# Altium schematic symbol library OpenRex_V1I1.SCHLIB: 164 symbols (part 3 of 5)
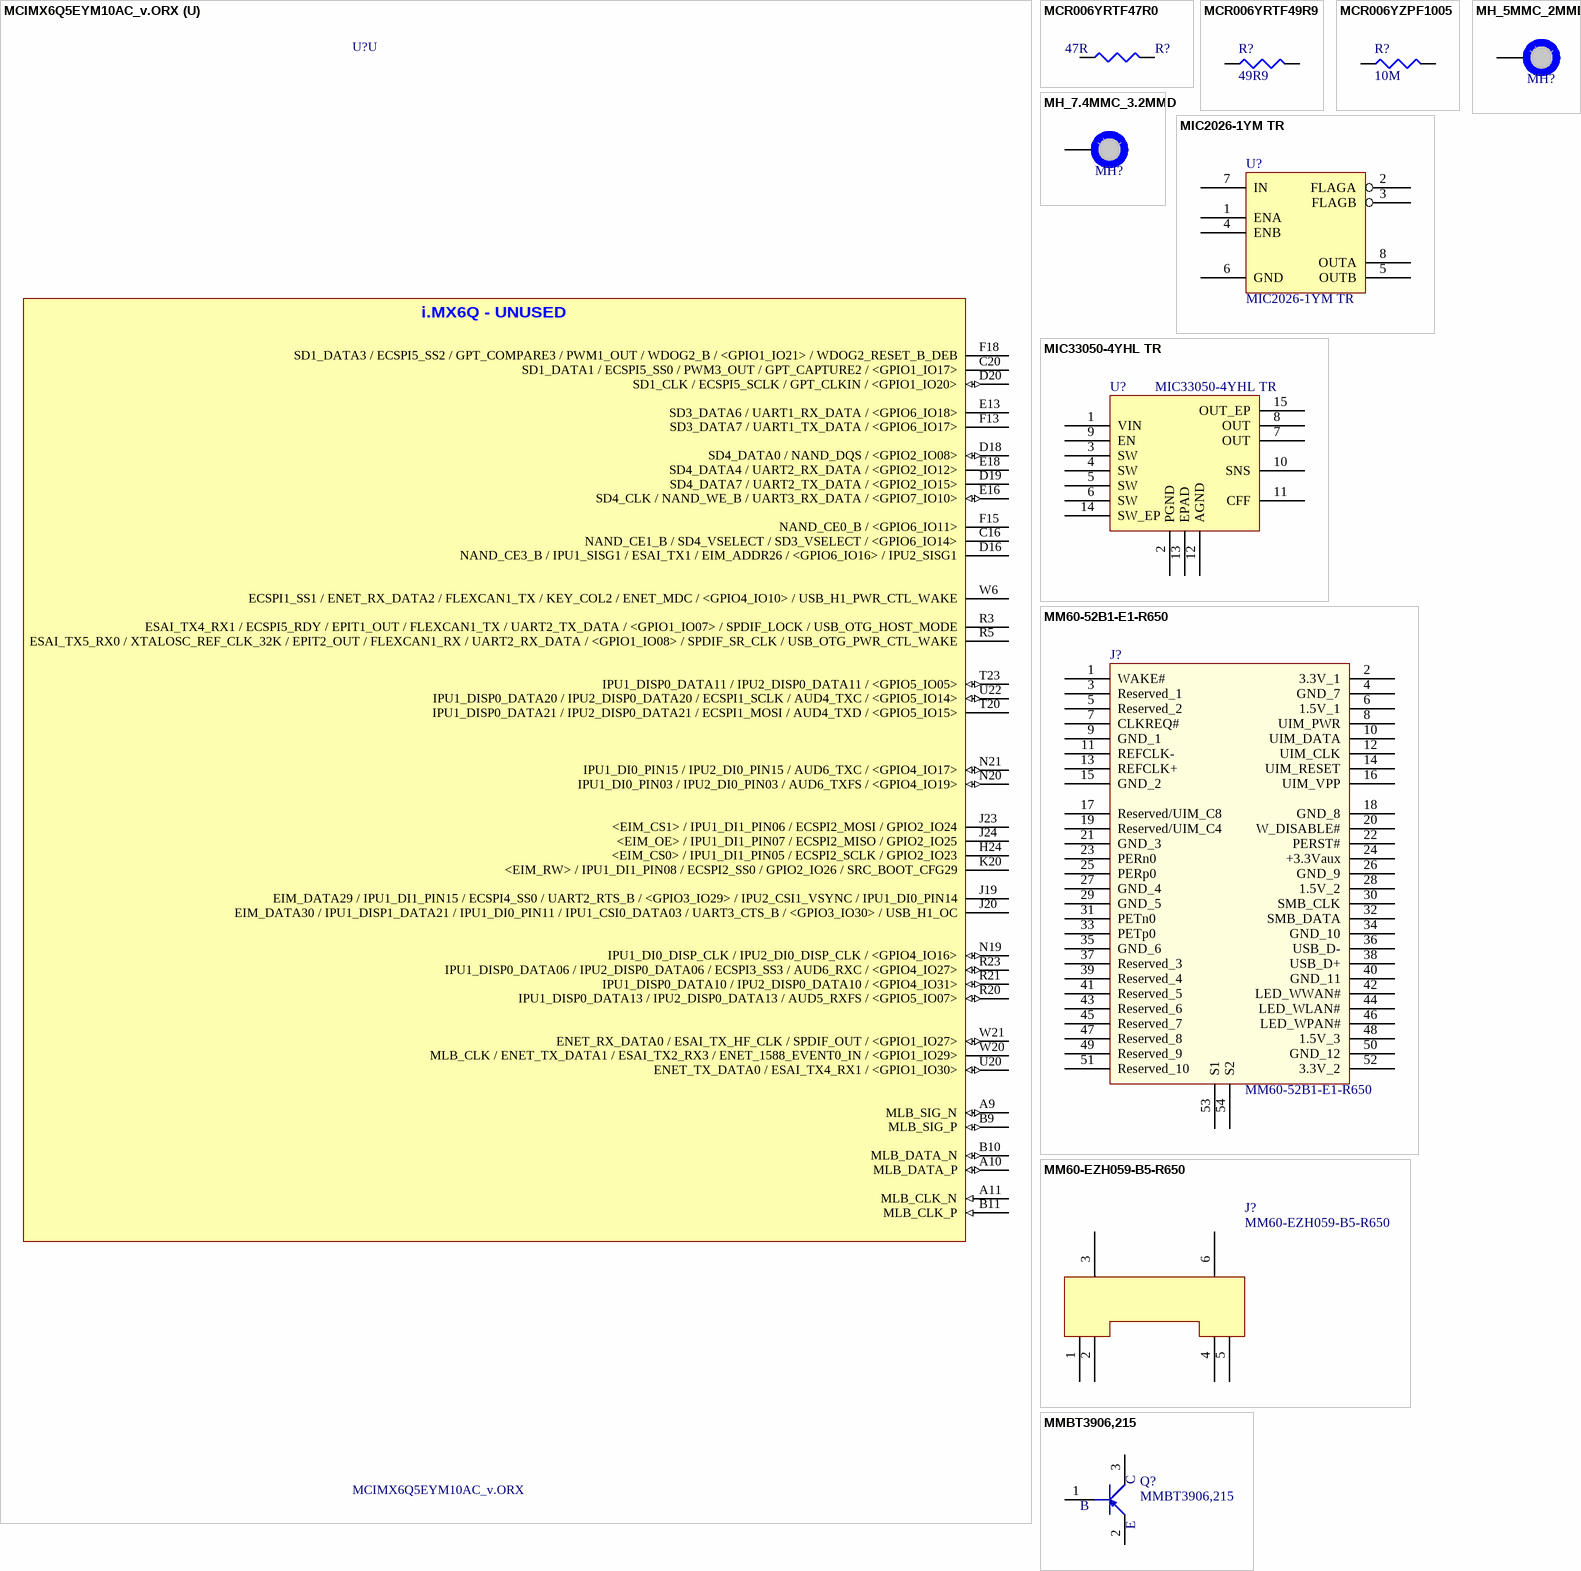
[diagram p18: symbols MCIMX6Q5EYM10AC_v.ORX to MMBT3906,215]

## MCIMX6Q5EYM10AC_v.ORX
designator U?
IC MCU 32BIT ARM QUAD 624FCBGA; Manufacturer: Freescale Semiconductor; Core Processor: ARM® Cortex™-A9; Core Size: 32-Bit Quad-Core; Speed: 1.0GHz; Connectivity: CAN, EBI/EMI, ESAI, Ethernet, GPMI, I2C, MMC/SD, PCI, SATA, SPI, UART, USB, USB OTG; Peripherals: DMA, HDMI, I2S/SSI/AC97, MIPI CSI, MIMI DSI, MIPI HIS, PWM, WDT; Number of I /O: 224; Program Memory Type: External Program Memory; RAM Size: 256K x 8; Voltage - Supply (Vcc/Vdd): 0.925 V ~ 1.5 V; Oscillator Type: Internal; .Creator: MM; .Checked PCB: MM, checked by RF; Supplier 1: Digi-Key; Manufacturer Part Number: MCIMX6Q5EYM10AC; RoHS: RoHS Compliant; Category: Integrated Circuits (ICs); Stock 1: 0; Pricing 1: 1=54.98, 10=51.922, 25=48.868, 100=30.5424 (USD); Program Memory Size: -; EEPROM Size: -; Data Converters: -; Operating Temperature: -20°C ~ 105°C; Package / Case: 624-FBGA, FCBGA; Packaging: Tray; ComponentLink1URL: http://cache.freescale.com/files/32bit/doc/data_sheet/IMX6DQCEC.pdf; ComponentLink1Description: http://cache.freescale.com/files/32bit/doc/data_sheet/IMX6DQCEC.pdf; Supplier Part Number 1: MCIMX6Q5EYM10AC-ND
footprint PBGA624 (Creator MM)
part A pins: A7 XTALOSC_XTALI, B7 XTALOSC_XTALO (out), C2 JTAG_TRSTB, C3 JTAG_TMS, C5 XTALOSC_CLK2_N (io), C9 XTALOSC_RTC_XTALO (out), C11 ~{SRC_POR}, C12 SRC_BOOT_MODE0, D5 XTALOSC_CLK2_P (io), D9 XTALOSC_RTC_XTALI, D11 SNVS_PMIC_ON_REQ (out), D12 SRC_ONOFF, E11 SNVS_TAMPER, E12 TCU_TEST_MODE, E19 SD1_DATA2 / ECSPI5_SS1 / GPT_COMPARE2 / PWM2_OUT / WDOG1_B / <GPIO1_IO19> / WDOG1_RESET_B_DEB, F11 CCM_PMIC_STBY_REQ (out), F12 SRC_BOOT_MODE1, G5 JTAG_TDI, G6 JTAG_TDO (out), H5 JTAG_TCK, H6 JTAG_MOD, H19 <EIM_ADDR25> / ECSPI4_SS1 / ECSPI2_RDY / IPU1_DI1_PIN12 / IPU1_DI0_D1_CS / GPIO5_IO02 / HDMI_TX_CEC_LINE (io), P25 IPU1_DI0_PIN04 / IPU2_DI0_PIN04 / AUD6_RXD / SD1_WP / <GPIO4_IO20>, R24 IPU1_DISP0_DATA07 / IPU2_DISP0_DATA07 / ECSPI3_RDY / <GPIO4_IO28> (io), T2 ESAI_RX_FS / WDOG1_B / KEY_COL6 / CCM_REF_EN_B / PWM1_OUT / <GPIO1_IO09> / SD1_WP (io), T24 IPU1_DISP0_DATA12 / IPU2_DISP0_DATA12 / <GPIO5_IO06>, U21 ENET_RX_EN / ESAI_TX_CLK / SPDIF_EXT_CLK / <GPIO1_IO25>, U25 IPU1_DISP0_DATA14 / IPU2_DISP0_DATA14 / AUD5_RXC / <GPIO5_IO08> (io), V24 IPU1_DISP0_DATA22 / IPU2_DISP0_DATA22 / ECSPI1_MISO / AUD4_TXFS / <GPIO5_IO16> (io), W23 USB_OTG_ID / ENET_RX_ER / ESAI_RX_HF_CLK / SPDIF_IN / ENET_1588_EVENT2_OUT / <GPIO1_IO24>, W24 IPU1_DISP0_DATA23 / IPU2_DISP0_DATA23 / ECSPI1_SS0 / AUD4_RXD / <GPIO5_IO17> (io)
part B pins: A4 GND_3 (power), A5 FA_ANA (power), A8 GND_4 (power), A13 GND_1 (power), A25 GND_2 (power), AA7 GND_10 (power), AA10 GND_5 (power), AA13 GND_6 (power), AA16 GND_7 (power), AA19 GND_8 (power), AA22 GND_9 (power), AB3 GND_12 (power), AB24 GND_11 (power), AD4 GND_18 (power), AD7 GND_19 (power), AD10 GND_13 (power), AD13 GND_14 (power), AD16 GND_15 (power), AD19 GND_16 (power), AD22 GND_17 (power), AE1 GND_20 (power), AE25 GND_21 (power), B4 GND_22 (power), B5 VDD_FA (power), C1 GND_23 (power), C4 GND_25 (power), C6 GND_26 (power), C8 GPANAIO (power), C10 GND_24 (power), D3 GND_27 (power), D6 GND_28 (power), D8 GND_29 (power), E5 GND_30 (power), E6 GND_31 (power), E7 GND_32 (power), E8 NVCC_PLL_OUT (power), F5 GND_33 (power), F6 GND_34 (power), F7 GND_35 (power), F8 GND_36 (power), G3 GND_39 (power), G9 VDD_SNVS_CAP (power), G10 GND_37 (power), G11 VDD_SNVS_IN (power), G14 NVCC_SD3 (power), G15 NVCC_NANDF (power), G16 NVCC_SD1 (power), G17 NVCC_SD2 (power), G18 NVCC_RGMII (power), G19 GND_38 (power), H8 GND_43 (power), H9 VDDHIGH_IN_1 (power), H10 VDDHIGH_CAP_1 (power), H11 VDDARM23_CAP_1 (power), H12 GND_40 (power), H13 VDDARM_CAP_1 (power), H14 VDDARM_IN_1 (power), H15 GND_41 (power), H16 VDDSOC_IN_1 (power), H17 VDDPU_CAP_1 (power), H18 GND_42 (power), J2 GND_47 (power), J7 NVCC_JTAG (power), J8 GND_48 (power), J9 VDDHIGH_IN_2 (power), J10 VDDHIGH_CAP_2 (power), J11 VDDARM23_CAP_2 (power), J12 GND_44 (power), J13 VDDARM_CAP_2 (power), J14 VDDARM_IN_2 (power), J15 GND_45 (power), J16 VDDSOC_IN_2 (power), J17 VDDPU_CAP_2 (power), J18 GND_46 (power), K7 NVCC_MIPI (power), K8 GND_53 (power), K9 VDDARM23_IN_1 (power), K10 GND_49 (power), K11 VDDARM23_CAP_3 (power), K12 GND_50 (power), K13 VDDARM_CAP_3 (power), K14 VDDARM_IN_3 (power), K15 GND_51 (power), K16 VDDSOC_IN_3 (power), K17 VDDPU_CAP_3 (power), K18 GND_52 (power), K19 NVCC_EIM0 (power), L2 GND_58 (power), L5 GND_59 (power), L8 GND_60 (power), L9 VDDARM23_IN_2 (power), L10 GND_54 (power), L11 VDDARM23_CAP_4 (power), L12 GND_55 (power), L13 VDDARM_CAP_4 (power), L14 VDDARM_IN_4 (power), L15 GND_56 (power), L16 VDDSOC_IN_4 (power), L17 VDDPU_CAP_4 (power), L18 GND_57 (power), L19 NVCC_EIM1 (power), M8 GND_65 (power), M9 VDDARM23_IN_3 (power), M10 GND_61 (power), M11 VDDARM23_CAP_5 (power), M12 GND_62 (power), M13 VDDARM_CAP_5 (power), M14 VDDARM_IN_5 (power), M15 GND_63 (power), M16 VDDSOC_IN_5 (power), M17 VDDPU_CAP_5 (power), M18 GND_64 (power), M19 NVCC_EIM2 (power), N7 NVCC_CSI (power), N8 GND_69 (power), N9 VDDARM23_IN_4 (power), N10 GND_66 (power), N11 VDDARM23_CAP_6 (power), N12 VDD_CACHE_CAP (power), N13 VDDARM_CAP_6 (power), N14 VDDARM_IN_6 (power), N15 GND_67 (power), N16 VDDSOC_IN_6 (power), N17 VDDPU_CAP_6 (power), N18 GND_68 (power), P7 NVCC_GPIO (power), P8 GND_74 (power), P9 VDDARM23_IN_5 (power), P10 GND_70 (power), P11 VDDARM23_CAP_7 (power), P12 GND_71 (power), P13 VDDARM_CAP_7 (power), P14 VDDARM_IN_7 (power), P15 GND_72 (power), P16 VDDSOC_IN_7 (power), P17 VDDPU_CAP_7 (power), P18 GND_73 (power), P19 NVCC_LCD (power), R8 GND_78 (power), R9 VDDARM23_IN_6 (power), R10 VDDSOC_CAP_1 (power), R11 VDDARM23_CAP_8 (power), R12 GND_75 (power), R13 VDDARM_CAP_8 (power), R14 VDDARM_IN_8 (power), R15 GND_76 (power), R16 VDDSOC_IN_8 (power), R17 GND_77 (power), R19 NVCC_ENET (power), T8 GND_84 (power), T9 VDDARM23_IN_7 (power), T10 VDDSOC_CAP_2 (power), T11 GND_79 (power), T12 GND_80 (power), T13 VDDSOC_CAP_3 (power), T14 VDDSOC_CAP_4 (power), T15 GND_81 (power), T16 VDDSOC_IN_9 (power), T17 GND_82 (power), T19 GND_83 (power), U8 GND_89 (power), U9 VDDARM23_IN_8 (power), U10 VDDSOC_CAP_5 (power), U11 GND_85 (power), U12 GND_86 (power), U13 VDDSOC_CAP_6 (power), U14 VDDSOC_CAP_7 (power), U15 GND_87 (power), U16 VDDSOC_IN_10 (power), U17 GND_88 (power), U19 GND_90 (power), V8 GND_91 (power), V19 GND_92 (power), W3 GND_93 (power), W7 GND_94 (power), W8 GND_95 (power), W9 GND_96 (power), W10 GND_97 (power), W11 GND_98 (power), W12 GND_99 (power), W13 GND_100 (power), W15 GND_101 (power), W16 GND_102 (power), W17 GND_103 (power), W18 GND_104 (power), W19 GND_105 (power), Y5 GND_106 (power), Y24 GND_107 (power)
part C pins: AA5 DRAM_D3 (io), AA6 DRAM_D10 (io), AA8 DRAM_D17 (io), AA9 DRAM_D23 (io), AA11 DRAM_SDCKE1 (out), AA12 DRAM_A14 (out), AA14 DRAM_A2 (out), AA15 DRAM_A10 (out), AA17 DRAM_D32 (io), AA18 DRAM_D33 (io), AA20 DRAM_D45 (io), AA21 DRAM_D57 (io), AA23 DRAM_D61 (io), AA24 ~{DRAM_SDQS7} (io), AA25 DRAM_SDQS7 (io), AB4 DRAM_D6 (io), AB5 DRAM_D12 (io), AB6 DRAM_D14 (io), AB7 DRAM_D16 (io), AB8 DRAM_DQM2 (out), AB9 DRAM_D18 (io), AB10 ~{DRAM_SDQS3} (io), AB11 DRAM_D27 (io), AB12 DRAM_SDBA2 (out), AB13 DRAM_A8 (out), AB14 DRAM_A1 (out), AB15 DRAM_RAS (out), AB16 DRAM_SDWE (out), AB17 DRAM_SDODT1 (out), AB18 DRAM_DQM4 (out), AB19 DRAM_D38 (io), AB20 DRAM_D41 (io), AB21 DRAM_D42 (io), AB22 DRAM_D52 (io), AB23 DRAM_D60 (io), AB25 DRAM_D56 (io), AC1 DRAM_D4 (io), AC2 DRAM_VREF (power), AC3 DRAM_DQM0 (out), AC4 DRAM_D2 (io), AC5 DRAM_D13 (io), AC6 DRAM_DQM1 (out), AC7 DRAM_D15 (io), AC8 DRAM_D22 (io), AC9 DRAM_D28 (io), AC10 DRAM_SDQS3 (io), AC11 DRAM_D31 (io), AC12 DRAM_A11 (out), AC13 DRAM_A6 (out), AC14 DRAM_A0 (out), AC15 DRAM_SDBA0 (out), AC16 DRAM_SDODT0 (out), AC17 DRAM_A13 (out), AC18 DRAM_D34 (io), AC19 DRAM_D39 (io), AC20 DRAM_DQM5 (out), AC21 DRAM_D47 (io), AC22 DRAM_D48 (io), AC23 DRAM_D53 (io), AC24 DRAM_D51 (io), AC25 DRAM_D55 (io), AD1 DRAM_D5 (io), AD2 DRAM_D0 (io), AD3 ~{DRAM_SDQS0} (io), AD5 DRAM_D8 (io), AD6 DRAM_SDQS1 (io), AD8 DRAM_SDQS2 (io), AD9 DRAM_D29 (io), AD11 DRAM_D30 (io), AD12 DRAM_A12 (out), AD14 DRAM_SDCLK_1 (out), AD15 DRAM_SDCLK_0 (out), AD17 DRAM_CS1 (out), AD18 DRAM_SDQS4 (io), AD20 DRAM_SDQS5 (io), AD21 DRAM_D43 (io), AD23 DRAM_SDQS6 (io), AD24 DRAM_DQM6 (out), AD25 DRAM_D54 (io), AE2 DRAM_D1 (io), AE3 DRAM_SDQS0 (io), AE4 DRAM_D7 (io), AE5 DRAM_D9 (io), AE6 ~{DRAM_SDQS1} (io), AE7 DRAM_D11 (io), AE8 ~{DRAM_SDQS2} (io), AE9 DRAM_D24 (io), AE10 DRAM_DQM3 (out), AE11 DRAM_D26 (io), AE12 DRAM_A9 (out), AE13 DRAM_A5 (out), AE14 ~{DRAM_SDCLK_1} (out), AE15 ~{DRAM_SDCLK_0} (out), AE16 DRAM_CAS (out), AE17 ZQPAD, AE18 ~{DRAM_SDQS4} (io), AE19 DRAM_D35 (io), AE20 ~{DRAM_SDQS5} (io), AE21 DRAM_D46 (io), AE22 DRAM_D49 (io), AE23 ~{DRAM_SDQS6} (io), AE24 DRAM_D50 (io), R18 NVCC_DRAM_1 (power), T18 NVCC_DRAM_2 (power), U18 NVCC_DRAM_3 (power), V9 NVCC_DRAM_13 (power), V10 NVCC_DRAM_4 (power), V11 NVCC_DRAM_5 (power), V12 NVCC_DRAM_6 (power), V13 NVCC_DRAM_7 (power), V14 NVCC_DRAM_8 (power), V15 NVCC_DRAM_9 (power), V16 NVCC_DRAM_10 (power), V17 NVCC_DRAM_11 (power), V18 NVCC_DRAM_12 (power), W14 DRAM_A4 (out), W25 DRAM_D63 (io), Y6 DRAM_RESET (out), Y7 DRAM_D20 (io), Y8 DRAM_D21 (io), Y9 DRAM_D19 (io), Y10 DRAM_D25 (io), Y11 DRAM_SDCKE0 (out), Y12 DRAM_A15 (out), Y13 DRAM_A7 (out), Y14 DRAM_A3 (out), Y15 DRAM_SDBA1 (out), Y16 DRAM_CS0 (out), Y17 DRAM_D36 (io), Y18 DRAM_D37 (io), Y19 DRAM_D40 (io), Y20 DRAM_D44 (io), Y21 DRAM_DQM7 (out), Y22 DRAM_D59 (io), Y23 DRAM_D62 (io), Y25 DRAM_D58 (io)
part D pins: A12 SATA_PHY_TX_P (out), A14 SATA_PHY_RX_N, B12 SATA_PHY_TX_N (out), B14 SATA_PHY_RX_P, C14 SATA_REXT, G12 SATA_VPH (power), G13 SATA_VP (power)
part E pins: A6 USB_OTG_DP (io), B6 USB_OTG_DN (io), B8 ~{USB_OTG_CHD} (out), D10 USB_H1_VBUS (power), E9 USB_OTG_VBUS (power), E10 USB_H1_DP (io), F9 VDDUSB_CAP (power), F10 USB_H1_DN (io), H21 EIM_DATA31 / IPU1_DISP1_DATA20 / IPU1_DI0_PIN12 / IPU1_CSI0_DATA02 / UART3_RTS_B / <GPIO3_IO31> / USB_H1_PWR, R7 ESAI_RX_HF_CLK / I2C3_SCL / XTALOSC_REF_CLK_24M / CCM_CLKO2 / <GPIO1_IO03> / USB_H1_OC / MLB_CLK, T4 ESAI_RX_CLK / WDOG2_B / KEY_ROW5 / USB_OTG_ID / PWM2_OUT / <GPIO1_IO01> / SD1_CD_B, T6 FLEXCAN2_TX / IPU1_SISG4 / USB_OTG_OC / KEY_COL4 / UART5_RTS_B / <GPIO4_IO14>
part F pins: AA1 LVDS1_DATA1_P (out), AA2 LVDS1_DATA1_N (out), AA3 LVDS1_DATA3_N (out), AA4 LVDS1_DATA3_P (out), AB1 LVDS1_DATA2_N (out), AB2 LVDS1_DATA2_P (out), U1 LVDS0_DATA0_P (out), U2 LVDS0_DATA0_N (out), U3 LVDS0_DATA1_P (out), U4 LVDS0_DATA1_N (out), V1 LVDS0_DATA2_P (out), V2 LVDS0_DATA2_N (out), V3 LVDS0_CLK_P (out), V4 LVDS0_CLK_N (out), V7 NVCC_LVDS2P5 (power), W1 LVDS0_DATA3_P (out), W2 LVDS0_DATA3_N (out), Y1 LVDS1_DATA0_N (out), Y2 LVDS1_DATA0_P (out), Y3 LVDS1_CLK_N (out), Y4 LVDS1_CLK_P (out)
part G pins: J1 HDMI_REF, J3 HDMI_TX_DATA1_N (out), J4 HDMI_TX_DATA1_P (out), J5 HDMI_TX_CLK_N (out), J6 HDMI_TX_CLK_P (out), K1 HDMI_TX_HPD, K2 HDMI_TX_DDC_CEC (io), K3 HDMI_TX_DATA2_N (out), K4 HDMI_TX_DATA2_P (out), K5 HDMI_TX_DATA0_N (out), K6 HDMI_TX_DATA0_P (out), L7 HDMI_VP (power), M7 HDMI_VPH (power), W4 ECSPI1_SS2 / ENET_TX_DATA2 / FLEXCAN1_RX / KEY_ROW2 / SD2_VSELECT / <GPIO4_IO11> / HDMI_TX_CEC_LINE
part H pins: A24 HSI_RX_WAKE / RGMII_TD3 / <GPIO6_IO23> (out), B23 HSI_TX_FLAG / RGMII_RD1 / <GPIO6_IO27> (in), B24 HSI_TX_DATA / RGMII_RD2 / <GPIO6_IO28> (in), B25 USB_H3_STROBE / RGMII_RXC / <GPIO6_IO30> (in), C22 HSI_TX_READY / RGMII_TD0 / <GPIO6_IO20> (out), C23 USB_H2_STROBE / RGMII_TX_CTL / <GPIO6_IO26> / ENET_REF_CLK (out), C24 HSI_RX_READY / RGMII_RD0 / <GPIO6_IO25> (in), D21 USB_H2_DATA / RGMII_TXC / SPDIF_EXT_CLK / <GPIO6_IO19> / XTALOSC_REF_CLK_24M (out), D22 USB_H3_DATA / RGMII_RX_CTL / <GPIO6_IO24> (in), D23 HSI_TX_WAKE / RGMII_RD3 / <GPIO6_IO29> (in), E21 HSI_RX_DATA / RGMII_TD2 / <GPIO6_IO22> (out), F20 HSI_RX_FLAG / RGMII_TD1 / <GPIO6_IO21> (out), V20 MLB_DATA / ENET_MDC / ESAI_TX5_RX0 / ENET_1588_EVENT1_IN / <GPIO1_IO31>, V21 ENET_TX_EN / ESAI_TX3_RX2 / <GPIO1_IO28> (io), V22 ENET_TX_CLK / ESAI_RX_FS / <GPIO1_IO23> / SPDIF_SR_CLK, V23 ENET_MDIO / ESAI_RX_CLK / ENET_1588_EVENT1_OUT / <GPIO1_IO22> / SPDIF_LOCK (io), W22 MLB_SIG / ENET_RX_DATA1 / ESAI_TX_FS / ENET_1588_EVENT3_OUT / <GPIO1_IO26>
part I pins: A2 PCIE_REXT, A3 PCIE_TX_N (out), B1 PCIE_RX_N (in), B2 PCIE_RX_P (in), B3 PCIE_TX_P (out), C7 XTALOSC_CLK1_N (io), D7 XTALOSC_CLK1_P (io), G7 PCIE_VPH (power), G8 PCIE_VPTX (power), H7 PCIE_VP (power), P3 IPU1_CSI0_DATA_EN / EIM_DATA00 / <GPIO5_IO20> / ARM_TRACE_CLK, R1 ESAI_TX0 / ENET_1588_EVENT3_IN / CCM_PMIC_READY / SDMA_EXT_EVENT0 / SPDIF_OUT / <GPIO7_IO12>, V5 FLEXCAN2_RX / IPU1_SISG5 / USB_OTG_PWR / KEY_ROW4 / UART5_CTS_B / <GPIO4_IO15>
part J pins: N1 IPU1_CSI0_DATA04 / EIM_DATA02 / ECSPI1_SCLK / KEY_COL5 / AUD3_TXC / <GPIO5_IO22> / ARM_TRACE01, N3 IPU1_CSI0_DATA07 / EIM_DATA05 / ECSPI1_SS0 / KEY_ROW6 / AUD3_RXD / <GPIO5_IO25> / ARM_TRACE04, N4 IPU1_CSI0_DATA06 / EIM_DATA04 / ECSPI1_MISO / KEY_COL6 / AUD3_TXFS / <GPIO5_IO24> / ARM_TRACE03, P2 IPU1_CSI0_DATA05 / EIM_DATA03 / ECSPI1_MOSI / KEY_ROW5 / AUD3_TXD / <GPIO5_IO23> / ARM_TRACE02, T5 CCM_CLKO1 / KEY_COL5 / ASRC_EXT_CLK / EPIT1_OUT / <GPIO1_IO00> / USB_H1_PWR / SNVS_VIO_5
part K pins: B20 SD4_DATA6 / UART2_CTS_B / <GPIO2_IO14>, C13 SD3_DATA5 / UART2_TX_DATA / <GPIO7_IO00>, C19 SD4_DATA5 / UART2_RTS_B / <GPIO2_IO13>, D13 SD3_DATA4 / UART2_RX_DATA / <GPIO7_IO01>, D25 EIM_DATA23 / IPU1_DI0_D0_CS / UART3_CTS_B / UART1_DCD_B / IPU2_CSI1_DATA_EN / <GPIO3_IO23> / IPU1_DI1_PIN02 / IPU1_DI1_PIN14, F22 EIM_DATA24 / ECSPI4_SS2 / UART3_TX_DATA / ECSPI1_SS2 / ECSPI2_SS2 / <GPIO3_IO24> / AUD5_RXFS / UART1_DTR_B, F23 EIM_EB3 / ECSPI4_RDY / UART3_RTS_B / UART1_RI_B / IPU2_CSI1_HSYNC / <GPIO2_IO31> / IPU1_DI1_PIN03 / SRC_BOOT_CFG31, G20 EIM_DATA20 / ECSPI4_SS0 / IPU1_DI0_PIN16 / IPU2_CSI1_DATA15 / UART1_RTS_B / <GPIO3_IO20> / EPIT2_OUT, G21 EIM_DATA19 / ECSPI1_SS1 / IPU1_DI0_PIN08 / IPU2_CSI1_DATA16 / UART1_CTS_B / <GPIO3_IO19> / EPIT1_OUT, G22 EIM_DATA25 / ECSPI4_SS3 / UART3_RX_DATA / ECSPI1_SS3 / ECSPI2_SS3 / <GPIO3_IO25> / AUD5_RXC / UART1_DSR_B, M1 IPU1_CSI0_DATA10 / AUD3_RXC / ECSPI2_MISO / UART1_TX_DATA / <GPIO5_IO28> / ARM_TRACE07, M3 IPU1_CSI0_DATA11 / AUD3_RXFS / ECSPI2_SS0 / UART1_RX_DATA / <GPIO5_IO29> / ARM_TRACE08, U6 ECSPI1_SS0 / ENET_COL / AUD5_RXD / KEY_ROW1 / UART5_RX_DATA / <GPIO4_IO09> / SD2_VSELECT, U7 ECSPI1_MISO / ENET_MDIO / AUD5_TXFS / KEY_COL1 / UART5_TX_DATA / <GPIO4_IO08> / SD1_VSELECT, V6 ECSPI1_MOSI / ENET_TX_DATA3 / AUD5_TXD / KEY_ROW0 / UART4_RX_DATA / <GPIO4_IO07> / DCIC2_OUT, W5 ECSPI1_SCLK / ENET_RX_DATA3 / AUD5_TXC / KEY_COL0 / UART4_TX_DATA / <GPIO4_IO06> / DCIC1_OUT
part L pins: C25 EIM_DATA16 / ECSPI1_SCLK / IPU1_DI0_PIN05 / IPU2_CSI1_DATA18 / HDMI_TX_DDC_SDA / <GPIO3_IO16> / I2C2_SDA, D24 EIM_DATA18 / ECSPI1_MOSI / IPU1_DI0_PIN07 / IPU2_CSI1_DATA17 / IPU1_DI1_D0_CS / <GPIO3_IO18> / I2C3_SDA, E22 EIM_EB2 / ECSPI1_SS0 / IPU2_CSI1_DATA19 / HDMI_TX_DDC_SCL / <GPIO2_IO30> / I2C2_SCL / SRC_BOOT_CFG30, F21 EIM_DATA17 / ECSPI1_MISO / IPU1_DI0_PIN06 / IPU2_CSI1_PIXCLK / DCIC1_OUT / <GPIO3_IO17> / I2C3_SCL, M25 <EIM_WAIT> / EIM_DTACK_B / GPIO5_IO00 / SRC_BOOT_CFG25, P20 IPU1_DISP0_DATA04 / IPU2_DISP0_DATA04 / ECSPI3_SS1 / <GPIO4_IO25> (io), P21 IPU1_DISP0_DATA03 / IPU2_DISP0_DATA03 / ECSPI3_SS0 / <GPIO4_IO24>, P22 IPU1_DISP0_DATA01 / IPU2_DISP0_DATA01 / ECSPI3_MOSI / <GPIO4_IO22>, P23 IPU1_DISP0_DATA02 / IPU2_DISP0_DATA02 / ECSPI3_MISO / <GPIO4_IO23>, P24 IPU1_DISP0_DATA00 / IPU2_DISP0_DATA00 / ECSPI3_SCLK / <GPIO4_IO21>, R25 IPU1_DISP0_DATA05 / IPU2_DISP0_DATA05 / ECSPI3_SS2 / AUD6_RXFS / <GPIO4_IO26>, T21 IPU1_DISP0_DATA16 / IPU2_DISP0_DATA16 / ECSPI2_MOSI / AUD5_TXC / SDMA_EXT_EVENT0 / <GPIO5_IO10>, T22 IPU1_DISP0_DATA15 / IPU2_DISP0_DATA15 / ECSPI1_SS1 / ECSPI2_SS1 / <GPIO5_IO09>, U23 IPU1_DISP0_DATA19 / IPU2_DISP0_DATA19 / ECSPI2_SCLK / AUD5_RXD / AUD4_RXC / <GPIO5_IO13> / EIM_CS3, U24 IPU1_DISP0_DATA17 / IPU2_DISP0_DATA17 / ECSPI2_MISO / AUD5_TXD / SDMA_EXT_EVENT1 / <GPIO5_IO11>, V25 IPU1_DISP0_DATA18 / IPU2_DISP0_DATA18 / ECSPI2_SS0 / AUD5_TXFS / AUD4_RXFS / <GPIO5_IO12> / EIM_CS2
part M pins: A22 SD2_DATA0 / ECSPI5_MISO / AUD4_RXD / KEY_ROW7 / <GPIO1_IO15> / DCIC2_OUT, A23 SD2_DATA2 / ECSPI5_SS1 / EIM_CS3 / AUD4_TXD / KEY_ROW6 / <GPIO1_IO13>, B22 SD2_DATA3 / ECSPI5_SS3 / KEY_COL6 / AUD4_TXC / <GPIO1_IO12>, C21 SD2_CLK / ECSPI5_SCLK / KEY_COL5 / AUD4_RXFS / <GPIO1_IO10>, E20 SD2_DATA1 / ECSPI5_SS0 / EIM_CS2 / AUD4_TXFS / KEY_COL7 / <GPIO1_IO14>, F19 SD2_CMD / ECSPI5_MOSI / KEY_ROW5 / AUD4_RXC / <GPIO1_IO11>, R6 ESAI_TX_HF_CLK / KEY_COL7 / <GPIO1_IO04> / SD2_CD_B, T1 ESAI_TX_FS / KEY_ROW6 / <GPIO1_IO02> / SD2_WP / MLB_DATA, T3 ESAI_TX_CLK / I2C3_SDA / <GPIO1_IO06> / SD2_LCTL / MLB_SIG
part N pins: E25 EIM_DATA27 / IPU1_DI1_PIN13 / IPU1_CSI0_DATA00 / IPU2_CSI1_DATA13 / UART2_RX_DATA / <GPIO3_IO27> / IPU1_SISG3 / IPU1_DISP1_DATA23, L1 IPU1_CSI0_DATA13 / EIM_DATA09 / UART4_RX_DATA / <GPIO5_IO31> / ARM_TRACE10, L3 IPU1_CSI0_DATA17 / EIM_DATA13 / UART4_CTS_B / <GPIO6_IO03> / ARM_TRACE14, L4 IPU1_CSI0_DATA16 / EIM_DATA12 / UART4_RTS_B / <GPIO6_IO02> / ARM_TRACE13, L6 IPU1_CSI0_DATA19 / EIM_DATA15 / UART5_CTS_B / <GPIO6_IO05>, M2 IPU1_CSI0_DATA12 / EIM_DATA08 / UART4_TX_DATA / <GPIO5_IO30> / ARM_TRACE09, M4 IPU1_CSI0_DATA14 / EIM_DATA10 / UART5_TX_DATA / <GPIO6_IO00> / ARM_TRACE11, M5 IPU1_CSI0_DATA15 / EIM_DATA11 / UART5_RX_DATA / <GPIO6_IO01> / ARM_TRACE12, M6 IPU1_CSI0_DATA18 / EIM_DATA14 / UART5_RTS_B / <GPIO6_IO04> / ARM_TRACE15, N5 IPU1_CSI0_DATA09 / EIM_DATA07 / ECSPI2_MOSI / KEY_ROW7 / I2C1_SCL / <GPIO5_IO27> / ARM_TRACE06, N6 IPU1_CSI0_DATA08 / EIM_DATA06 / ECSPI2_SCLK / KEY_COL7 / I2C1_SDA / <GPIO5_IO26> / ARM_TRACE05, P4 IPU1_CSI0_HSYNC / CCM_CLKO1 / <GPIO5_IO19> / ARM_TRACE_CTL, P5 KEY_COL5 / ENET_1588_EVENT0_OUT / SPDIF_OUT / CCM_CLKO1 / ECSPI1_RDY / <GPIO4_IO05> / ENET_TX_ER, P6 ESAI_TX1 / ENET_RX_CLK / SD3_VSELECT / SDMA_EXT_EVENT1 / ASRC_EXT_CLK / <GPIO7_IO13> / SNVS_VIO_5_CTL
part O pins: F24 <EIM_ADDR22> / IPU1_DISP1_DATA17 / IPU2_CSI1_DATA17 / GPIO2_IO16 / SRC_BOOT_CFG22, F25 <EIM_ADDR24> / IPU1_DISP1_DATA19 / IPU2_CSI1_DATA19 / IPU2_SISG2 / IPU1_SISG2 / GPIO5_IO04 / SRC_BOOT_CFG24, G24 <EIM_ADDR17> / IPU1_DISP1_DATA12 / IPU2_CSI1_DATA12 / GPIO2_IO21 / SRC_BOOT_CFG17, G25 <EIM_ADDR19> / IPU1_DISP1_DATA14 / IPU2_CSI1_DATA14 / GPIO2_IO19 / SRC_BOOT_CFG19, H22 <EIM_ADDR20> / IPU1_DISP1_DATA15 / IPU2_CSI1_DATA15 / GPIO2_IO18 / SRC_BOOT_CFG20, H23 <EIM_ADDR21> / IPU1_DISP1_DATA16 / IPU2_CSI1_DATA16 / GPIO2_IO17 / SRC_BOOT_CFG21, H25 <EIM_ADDR16> / IPU1_DI1_DISP_CLK / IPU2_CSI1_PIXCLK / GPIO2_IO22 / SRC_BOOT_CFG16, J21 <EIM_ADDR23> / IPU1_DISP1_DATA18 / IPU2_CSI1_DATA18 / IPU2_SISG3 / IPU1_SISG3 / GPIO6_IO06 / SRC_BOOT_CFG23, J22 <EIM_ADDR18> / IPU1_DISP1_DATA13 / IPU2_CSI1_DATA13 / GPIO2_IO20 / SRC_BOOT_CFG18, J25 <EIM_AD01> / IPU1_DISP1_DATA08 / IPU2_CSI1_DATA08 / GPIO3_IO01 / SRC_BOOT_CFG01, K21 <EIM_EB0> / IPU1_DISP1_DATA11 / IPU2_CSI1_DATA11 / CCM_PMIC_READY / GPIO2_IO28 / SRC_BOOT_CFG27, K22 <EIM_LBA> / IPU1_DI1_PIN17 / ECSPI2_SS1 / GPIO2_IO27 / SRC_BOOT_CFG26, K23 <EIM_EB1> / IPU1_DISP1_DATA10 / IPU2_CSI1_DATA10 / GPIO2_IO29 / SRC_BOOT_CFG28, K24 <EIM_AD03> / IPU1_DISP1_DATA06 / IPU2_CSI1_DATA06 / GPIO3_IO03 / SRC_BOOT_CFG03, K25 <EIM_AD06> / IPU1_DISP1_DATA03 / IPU2_CSI1_DATA03 / GPIO3_IO06 / SRC_BOOT_CFG06, L20 <EIM_AD00> / IPU1_DISP1_DATA09 / IPU2_CSI1_DATA09 / GPIO3_IO00 / SRC_BOOT_CFG00, L21 <EIM_AD02> / IPU1_DISP1_DATA07 / IPU2_CSI1_DATA07 / GPIO3_IO02 / SRC_BOOT_CFG02, L22 <EIM_AD04> / IPU1_DISP1_DATA05 / IPU2_CSI1_DATA05 / GPIO3_IO04 / SRC_BOOT_CFG04, L23 <EIM_AD05> / IPU1_DISP1_DATA04 / IPU2_CSI1_DATA04 / GPIO3_IO05 / SRC_BOOT_CFG05, L24 <EIM_AD08> / IPU1_DISP1_DATA01 / IPU2_CSI1_DATA01 / GPIO3_IO08 / SRC_BOOT_CFG08, L25 <EIM_AD07> / IPU1_DISP1_DATA02 / IPU2_CSI1_DATA02 / GPIO3_IO07 / SRC_BOOT_CFG07, M20 <EIM_AD11> / IPU1_DI1_PIN02 / IPU2_CSI1_HSYNC / GPIO3_IO11 / SRC_BOOT_CFG11, M21 <EIM_AD09> / IPU1_DISP1_DATA00 / IPU2_CSI1_DATA00 / GPIO3_IO09 / SRC_BOOT_CFG09, M22 <EIM_AD10> / IPU1_DI1_PIN15 / IPU2_CSI1_DATA_EN / GPIO3_IO10 / SRC_BOOT_CFG10, M23 <EIM_AD13> / IPU1_DI1_D0_CS / GPIO3_IO13 / SRC_BOOT_CFG13, M24 <EIM_AD12> / IPU1_DI1_PIN03 / IPU2_CSI1_VSYNC / GPIO3_IO12 / SRC_BOOT_CFG12, N22 <EIM_BCLK> / IPU1_DI1_PIN16 / GPIO6_IO31, N23 <EIM_AD14> / IPU1_DI1_D1_CS / GPIO3_IO14 / SRC_BOOT_CFG14
part P pins: A15 SD3_DATA2 / <GPIO7_IO06> (io), A17 NAND_CE2_B / IPU1_SISG0 / ESAI_TX0 / EIM_CRE / CCM_CLKO2 / <GPIO6_IO15> / IPU2_SISG0, A20 SD4_DATA3 / <GPIO2_IO11>, A21 SD1_DATA0 / ECSPI5_MISO / GPT_CAPTURE1 / <GPIO1_IO16>, B15 SD3_DATA3 / UART3_CTS_B / <GPIO7_IO07> (io), B16 NAND_READY / IPU2_DI0_PIN01 / <GPIO6_IO10>, B17 SD4_CMD / NAND_RE_B / UART3_TX_DATA / <GPIO7_IO09> (io), B19 SD4_DATA1 / PWM3_OUT / <GPIO2_IO09> (io), B21 SD1_CMD / ECSPI5_MOSI / PWM4_OUT / GPT_COMPARE1 / <GPIO1_IO18>, E23 EIM_DATA22 / ECSPI4_MISO / IPU1_DI0_PIN01 / IPU2_CSI1_DATA10 / USB_OTG_PWR / <GPIO3_IO22> / SPDIF_OUT, E24 EIM_DATA26 / IPU1_DI1_PIN11 / IPU1_CSI0_DATA01 / IPU2_CSI1_DATA14 / UART2_TX_DATA / <GPIO3_IO26> / IPU1_SISG2 / IPU1_DISP1_DATA22, F17 SD4_DATA2 / PWM4_OUT / <GPIO2_IO10> (io), N2 IPU1_CSI0_VSYNC / EIM_DATA01 / <GPIO5_IO21> / ARM_TRACE00, N24 <EIM_AD15> / IPU1_DI1_PIN01 / IPU1_DI1_PIN04 / GPIO3_IO15 / SRC_BOOT_CFG15, N25 IPU1_DI0_PIN02 / IPU2_DI0_PIN02 / AUD6_TXD / <GPIO4_IO18>, P1 IPU1_CSI0_PIXCLK / <GPIO5_IO18> / ARM_EVENTO, R22 IPU1_DISP0_DATA08 / IPU2_DISP0_DATA08 / PWM1_OUT / WDOG1_B / <GPIO4_IO29> (io), T25 IPU1_DISP0_DATA09 / IPU2_DISP0_DATA09 / PWM2_OUT / WDOG2_B / <GPIO4_IO30> (io)
part Q pins: A16 NAND_ALE / SD4_RESET / <GPIO6_IO08>, A18 NAND_DATA00 / SD1_DATA4 / <GPIO2_IO00>, A19 NAND_DATA04 / SD2_DATA4 / <GPIO2_IO04>, B18 NAND_DATA05 / SD2_DATA5 / <GPIO2_IO05>, C15 NAND_CLE / IPU2_SISG4 / <GPIO6_IO07>, C17 NAND_DATA01 / SD1_DATA5 / <GPIO2_IO01>, C18 NAND_DATA07 / SD2_DATA7 / <GPIO2_IO07>, D17 NAND_DATA03 / SD1_DATA7 / <GPIO2_IO03>, E15 NAND_WP_B / IPU2_SISG5 / <GPIO6_IO09>, E17 NAND_DATA06 / SD2_DATA6 / <GPIO2_IO06>, F16 NAND_DATA02 / SD1_DATA6 / <GPIO2_IO02>
part R pins: B13 SD3_CMD / UART2_CTS_B / FLEXCAN1_TX / <GPIO7_IO02>, D14 SD3_CLK / UART2_RTS_B / FLEXCAN1_RX / <GPIO7_IO03>, D15 SD3_RESET / UART3_RTS_B / <GPIO7_IO08>, E14 SD3_DATA0 / UART1_CTS_B / FLEXCAN2_TX / <GPIO7_IO04>, F14 SD3_DATA1 / UART1_RTS_B / FLEXCAN2_RX / <GPIO7_IO05>, G23 EIM_DATA28 / I2C1_SDA / ECSPI4_MOSI / IPU2_CSI1_DATA12 / UART2_CTS_B / <GPIO3_IO28> / IPU1_EXT_TRIG / IPU1_DI0_PIN13, H20 EIM_DATA21 / ECSPI4_SCLK / IPU1_DI0_PIN17 / IPU2_CSI1_DATA11 / USB_OTG_OC / <GPIO3_IO21> / I2C1_SCL / SPDIF_IN, R2 ESAI_TX3_RX2 / ENET_1588_EVENT2_IN / ENET_REF_CLK / SD1_LCTL / SPDIF_IN / <GPIO7_IO11> / I2C3_SDA / JTAG_DE_B, R4 ESAI_TX2_RX3 / KEY_ROW7 / CCM_CLKO1 / <GPIO1_IO05> / I2C3_SCL / ARM_EVENTI, T7 ASRC_EXT_CLK / HDMI_TX_DDC_SDA / KEY_ROW3 / I2C2_SDA / <GPIO4_IO13> / SD1_VSELECT (io), U5 ECSPI1_SS3 / ENET_CRS / HDMI_TX_DDC_SCL / KEY_COL3 / I2C2_SCL / <GPIO4_IO12> / SPDIF_IN
part S pins: D1 CSI_DATA1_N (in), D2 CSI_DATA1_P (in), D4 CSI_REXT, E1 CSI_DATA2_N (in), E2 CSI_DATA2_P (in), E3 CSI_DATA0_P (in), E4 CSI_DATA0_N (in), F1 CSI_DATA3_P (in), F2 CSI_DATA3_N (in), F3 CSI_CLK0_P (in), F4 CSI_CLK0_N (in)
part T pins: G1 DSI_DATA0_P (out), G2 DSI_DATA0_N (out), G4 DSI_REXT, H1 DSI_DATA1_P (out), H2 DSI_DATA1_N (out), H3 DSI_CLK0_N (out), H4 DSI_CLK0_P (out)
part U pins: A9 MLB_SIG_N (io), A10 MLB_DATA_P (io), A11 MLB_CLK_N (in), B9 MLB_SIG_P (io), B10 MLB_DATA_N (io), B11 MLB_CLK_P (in), C16 NAND_CE1_B / SD4_VSELECT / SD3_VSELECT / <GPIO6_IO14>, C20 SD1_DATA1 / ECSPI5_SS0 / PWM3_OUT / GPT_CAPTURE2 / <GPIO1_IO17>, D16 NAND_CE3_B / IPU1_SISG1 / ESAI_TX1 / EIM_ADDR26 / <GPIO6_IO16> / IPU2_SISG1, D18 SD4_DATA0 / NAND_DQS / <GPIO2_IO08> (io), D19 SD4_DATA7 / UART2_TX_DATA / <GPIO2_IO15>, D20 SD1_CLK / ECSPI5_SCLK / GPT_CLKIN / <GPIO1_IO20> (io), E13 SD3_DATA6 / UART1_RX_DATA / <GPIO6_IO18>, E16 SD4_CLK / NAND_WE_B / UART3_RX_DATA / <GPIO7_IO10> (io), E18 SD4_DATA4 / UART2_RX_DATA / <GPIO2_IO12>, F13 SD3_DATA7 / UART1_TX_DATA / <GPIO6_IO17>, F15 NAND_CE0_B / <GPIO6_IO11>, F18 SD1_DATA3 / ECSPI5_SS2 / GPT_COMPARE3 / PWM1_OUT / WDOG2_B / <GPIO1_IO21> / WDOG2_RESET_B_DEB, H24 <EIM_CS0> / IPU1_DI1_PIN05 / ECSPI2_SCLK / GPIO2_IO23, J19 EIM_DATA29 / IPU1_DI1_PIN15 / ECSPI4_SS0 / UART2_RTS_B / <GPIO3_IO29> / IPU2_CSI1_VSYNC / IPU1_DI0_PIN14, J20 EIM_DATA30 / IPU1_DISP1_DATA21 / IPU1_DI0_PIN11 / IPU1_CSI0_DATA03 / UART3_CTS_B / <GPIO3_IO30> / USB_H1_OC, J23 <EIM_CS1> / IPU1_DI1_PIN06 / ECSPI2_MOSI / GPIO2_IO24, J24 <EIM_OE> / IPU1_DI1_PIN07 / ECSPI2_MISO / GPIO2_IO25, K20 <EIM_RW> / IPU1_DI1_PIN08 / ECSPI2_SS0 / GPIO2_IO26 / SRC_BOOT_CFG29, N19 IPU1_DI0_DISP_CLK / IPU2_DI0_DISP_CLK / <GPIO4_IO16> (io), N20 IPU1_DI0_PIN03 / IPU2_DI0_PIN03 / AUD6_TXFS / <GPIO4_IO19> (io), N21 IPU1_DI0_PIN15 / IPU2_DI0_PIN15 / AUD6_TXC / <GPIO4_IO17> (io), R3 ESAI_TX4_RX1 / ECSPI5_RDY / EPIT1_OUT / FLEXCAN1_TX / UART2_TX_DATA / <GPIO1_IO07> / SPDIF_LOCK / USB_OTG_HOST_MODE, R5 ESAI_TX5_RX0 / XTALOSC_REF_CLK_32K / EPIT2_OUT / FLEXCAN1_RX / UART2_RX_DATA / <GPIO1_IO08> / SPDIF_SR_CLK / USB_OTG_PWR_CTL_WAKE, R20 IPU1_DISP0_DATA13 / IPU2_DISP0_DATA13 / AUD5_RXFS / <GPIO5_IO07> (io), R21 IPU1_DISP0_DATA10 / IPU2_DISP0_DATA10 / <GPIO4_IO31> (io), R23 IPU1_DISP0_DATA06 / IPU2_DISP0_DATA06 / ECSPI3_SS3 / AUD6_RXC / <GPIO4_IO27> (io), T20 IPU1_DISP0_DATA21 / IPU2_DISP0_DATA21 / ECSPI1_MOSI / AUD4_TXD / <GPIO5_IO15>, T23 IPU1_DISP0_DATA11 / IPU2_DISP0_DATA11 / <GPIO5_IO05> (io), U20 ENET_TX_DATA0 / ESAI_TX4_RX1 / <GPIO1_IO30> (io), U22 IPU1_DISP0_DATA20 / IPU2_DISP0_DATA20 / ECSPI1_SCLK / AUD4_TXC / <GPIO5_IO14> (io), W6 ECSPI1_SS1 / ENET_RX_DATA2 / FLEXCAN1_TX / KEY_COL2 / ENET_MDC / <GPIO4_IO10> / USB_H1_PWR_CTL_WAKE, W20 MLB_CLK / ENET_TX_DATA1 / ESAI_TX2_RX3 / ENET_1588_EVENT0_IN / <GPIO1_IO29>, W21 ENET_RX_DATA0 / ESAI_TX_HF_CLK / SPDIF_OUT / <GPIO1_IO27> (io)
part A text: i.MX6Q - CONTROL
part B text: i.MX6Q - POWER
part C text: i.MX6Q - DDR
part D text: i.MX6Q - SATA
part E text: i.MX6Q - USB
part F text: i.MX6Q - LVDS; LVDS0; LVDS1
part G text: i.MX6Q - HDMI
part H text: i.MX6Q - RGMII
part I text: i.MX6Q - PCIe
part J text: i.MX6Q - AUDIO
part K text: i.MX6Q - UART; UART1; UART2; UART3; UART4; UART5
part L text: i.MX6Q - SPI; ECSPI1; ECSPI2; ECSPI3
part M text: i.MX6Q - SD2
part N text: i.MX6Q - CSI0; IPU1_CSI0_PIXCLK; IPU1_CSI0_VSYNC; IPU1_CSI0_DATA_EN; IPU1_CSI0_DATA01; IPU1_CSI0_DATA02; IPU1_CSI0_DATA03; IPU1_CSI0_DATA04; IPU1_CSI0_DATA05; IPU1_CSI0_DATA06; IPU1_CSI0_DATA07; IPU1_CSI0_DATA10; IPU1_CSI0_DATA11
part O text: i.MX6Q - CSI1 / DISP1
part P text: i.MX6Q - GPIO, PWM; GPIO; PWM; CSI_GPIO; MISC_GPIO
part Q text: i.MX6Q - LEDS, BUTTONS; LEDS; BUTTONS
part R text: i.MX6Q - I2C, CAN; I2C1; I2C2; I2C3; CAN
part S text: i.MX6Q - CSI
part T text: i.MX6Q - DSI
part U text: i.MX6Q - UNUSED

## MCR006YRTF47R0
designator R?, comment 47R
RES SMD 47 OHM 1% 1/20W 0201; Manufacturer: Rohm Semiconductor; Manufacturer Part Number: MCR006YRTF47R0; Resistance (Ohms): 47; Power (Watts): 0.05W, 1/20W; Temperature Coefficient: ±250ppm/°C; .Creator: MM; Supplier 1: Digi-Key; RoHS: RoHS Compliant; Category: Resistors; Stock 1: 28822; Pricing 1: 1=0.1, 10=0.051, 25=0.0368, 100=0.0208, 250=0.01584, 500=0.01268, 1000=0.00933, 5000=0.00669 (USD); Packaging: Cut Tape (CT); Tolerance: ±1%; Composition: Thick Film; Features: -; Operating Temperature: -55°C ~ 125°C; Package / Case: 0201 (0603 Metric); Supplier Device Package: 0201 (0603 Metric); Size / Dimension: 0.024" L x 0.012" W (0.60mm x 0.30mm); Height: 0.010" (0.26mm); Number of Terminations: 2; ComponentLink1URL: http://rohmfs.rohm.com/en/products/databook/datasheet/passive/resistor/chip_resistor/mcr_g.pdf; ComponentLink1Description: http://rohmfs.rohm.com/en/products/databook/datasheet/passive/resistor/chip_resistor/mcr_g.pdf; Supplier Part Number 1: RHM47CBCT-ND; .Checked PCB: MM; .Checked SCH: MM
footprint R0201 (Creator MM)
pins: 1, 2

## MCR006YRTF49R9
designator R?, comment 49R9
RES 49.9 OHM 1/20W 1% 0201 SMD; Manufacturer: Rohm Semiconductor; Manufacturer Part Number: MCR006YRTF49R9; Resistance (Ohms): 49.9; Power (Watts): 0.05W, 1/20W; Temperature Coefficient: ±250ppm/°C; .Creator: MM; Supplier 1: Digi-Key; RoHS: RoHS Compliant; Category: Resistors; Stock 1: 52679; Pricing 1: 1=0.1, 10=0.051, 25=0.0368, 100=0.0208, 250=0.01584, 500=0.01268, 1000=0.00933, 5000=0.00669 (USD); Packaging: Cut Tape (CT); Tolerance: ±1%; Composition: Thick Film; Features: -; Package / Case: 0201 (0603 Metric); Supplier Device Package: 0201 (0603 Metric); Size / Dimension: 0.024" L x 0.012" W (0.60mm x 0.30mm); Height: 0.010" (0.26mm); Number of Terminations: 2; ComponentLink1URL: http://rohmfs.rohm.com/en/products/databook/datasheet/passive/resistor/chip_resistor/mcr_g.pdf; ComponentLink1Description: http://rohmfs.rohm.com/en/products/databook/datasheet/passive/resistor/chip_resistor/mcr_g.pdf; Supplier Part Number 1: RHM49.9CBCT-ND; .Checked PCB: MM; .Checked SCH: MM
footprint R0201 (Creator MM)
pins: 1, 2

## MCR006YZPF1005
designator R?, comment 10M
RES 10M OHM 1/20W 1% 0201 SMD; Manufacturer: Rohm Semiconductor; Manufacturer Part Number: MCR006YZPF1005; Power (Watts): 0.05W, 1/20W; Temperature Coefficient: ±250ppm/°C; .Creator: MM; Supplier 1: Digi-Key; RoHS: RoHS Compliant; Category: Resistors; Stock 1: 88250; Pricing 1: 1=0.1, 10=0.064, 25=0.0464, 100=0.026, 250=0.0198, 500=0.01584, 1000=0.01166, 5000=0.00836 (USD); Packaging: Cut Tape (CT); Resistance (Ohms): 10M; Tolerance: ±1%; Composition: Thick Film; Features: Automotive AEC-Q200 Qualified; Package / Case: 0201 (0603 Metric); Supplier Device Package: 0201 (0603 Metric); Size / Dimension: 0.024" L x 0.012" W (0.60mm x 0.30mm); Height: 0.010" (0.26mm); Number of Terminations: 2; ComponentLink1URL: http://rohmfs.rohm.com/en/products/databook/datasheet/passive/resistor/chip_resistor/mcr_a.pdf; ComponentLink1Description: http://rohmfs.rohm.com/en/products/databook/datasheet/passive/resistor/chip_resistor/mcr_a.pdf; Supplier Part Number 1: RHM10MABCT-ND; .Checked PCB: MM; .Checked SCH: MM
footprint R0201 (Creator MM)
pins: 1, 2

## MH_5MMC_2MMD
designator MH?  (value not drawn)  (no BOM)
Mounting Hole 5mm Diameter, 2mm Drill; .Creator: MM
footprint MH_5MMD_2MMD
pins: 1

## MH_7.4MMC_3.2MMD
designator MH?  (value not drawn)  (no BOM)
Mounting Hole 7.4mm Diameter, 3.2mm Drill; .Creator: MM
footprint MH_7.4MMD_3.2MMD
pins: 1

## MIC2026-1YM TR
designator U?
IC SW DISTRIBUTION 2CHAN 8SOIC; Manufacturer: Micrel Inc; .Checked PCB: used; Number of Outputs: 2; Rds (On): 140 mOhm; Internal Switch(s): Yes; Current Limit: 900mA; Voltage - Input: 2.7 V ~ 5.5 V; .Checked SCH: used; Category: Integrated Circuits (ICs); Family: PMIC - Power Distribution Switches; Manufacturer Part Number: MIC2026-1YM TR; Operating Temperature: -40°C ~ 85°C; Package / Case: 8-SOIC (0.154", 3.90mm Width); Price 1k [$]: 0.53200; Supplier: Digikey; Supplier Part Number: 576-1059-1-ND; Value: MIC2026-1YM TR; Supplier 1: Digi-Key; Supplier Part Number 1: 576-1059-1-ND; RoHS: RoHS Compliant; Stock 1: 44857; Pricing 1: 1=1.14, 25=0.95, 100=0.76, 250=0.57, 500=0.532 (USD); Type: High Side Switch; Mounting Type: Surface Mount; Supplier Device Package: 8-SOIC; Packaging: Cut Tape (CT); ComponentLink1URL: http://www.micrel.com/_PDF/mic2026.pdf; ComponentLink1Description: http://www.micrel.com/_PDF/mic2026.pdf
footprint 8_SOIC_3.9MM
pins: 1 ENA, 2 FLAGA, 3 FLAGB, 4 ENB, 5 OUTB, 6 GND (power), 7 IN (power), 8 OUTA

## MIC33050-4YHL TR
designator U?
IC PWM REG 600mA 1.2V 12-MLF; Manufacturer: Micrel Inc; .Checked PCB: used; Voltage - Input: 2.7 V ~ 5.5 V; Output Type: Fixed; Number of Outputs: 1; PWM Type: Current Mode; Frequency - Switching: 4MHz; Synchronous Rectifier: Yes; .Checked SCH: used; Category: Integrated Circuits (ICs); Supplier Part Number: 576-3044-1-ND; Family: PMIC - Voltage Regulators - Switching DC DC Converters & Controllers; Manufacturer Part Number: MIC33050-4YHL TR; Operating Temperature: -40°C ~ 125°C; Package / Case: 12-MLF®, QFN; Price 1k [$]: 1.62500; Value: MIC33050-4YHL TR; Voltage - Output: 1.2V; Current - Output: 600mA; Supplier: Digikey; Supplier 1: Digi-Key; Supplier Part Number 1: 576-3044-1-ND; RoHS: RoHS Compliant; Stock 1: 1750; Pricing 1: 1=2.34, 25=1.872, 100=1.456, 250=1.3832, 500=1.352 (USD); Type: Step-Down (Buck); Mounting Type: Surface Mount; Packaging: Cut Tape (CT); Supplier Device Package: 12-MLF™ (3x3); ComponentLink1URL: http://www.micrel.com/_PDF/mic33050.pdf; ComponentLink1Description: http://www.micrel.com/_PDF/mic33050.pdf
footprint MLF_3x3_12PINS
pins: 1 VIN, 2 PGND, 3 SW, 4 SW, 5 SW, 6 SW, 7 OUT, 8 OUT, 9 EN, 10 SNS, 11 CFF, 12 AGND, 13 EPAD, 14 SW_EP, 15 OUT_EP

## MM60-52B1-E1-R650
designator J?
CONN MINI EXPRESS CARD 52POS SMD; Manufacturer: JAE Electronics; Card Type: PCI Express Mini Card; Gender: Female; Number of Positions: 52; Card Thickness: 0.039" (1.00mm); Pitch: 0.031" (0.80mm); Material - Insulation: Thermoplastic; Read Out: Dual; .Creator: MM; .Checked PCB: used; Supplier 1: Digi-Key; Manufacturer Part Number: MM60-52B1-E1-R650; RoHS: RoHS Compliant; Category: Connectors, Interconnects; Stock 1: 470; Pricing 1: 1=2.16, 10=1.962, 25=1.842, 100=1.6817, 250=1.52152 (USD); Packaging: Cut Tape (CT); Number of Positions/Bay/Row: -; Number of Rows: 2; Features: Board Guide; Mounting Type: Surface Mount, Right Angle; Termination: Solder; Contact Material: Copper Alloy; Contact Finish: Gold; Contact Finish Thickness: 4µin (0.10µm); Contact Type: -; Color: -; Flange Feature: -; Operating Temperature: -40°C ~ 85°C; ComponentLink1URL: http://jae-connectors.com/en/pdf/JACS-10313_MM60.pdf; ComponentLink1Description: http://jae-connectors.com/en/pdf/JACS-10313_MM60.pdf; Supplier Part Number 1: 670-2275-1-ND; .Checked SCH: used
footprint MINI_PCIE_52PIN_CARD_CON (Creator MM)
pins: 1 WAKE#, 2 3.3V_1, 3 Reserved_1, 4 GND_7, 5 Reserved_2, 6 1.5V_1, 7 CLKREQ#, 8 UIM_PWR, 9 GND_1, 10 UIM_DATA, 11 REFCLK-, 12 UIM_CLK, 13 REFCLK+, 14 UIM_RESET, 15 GND_2, 16 UIM_VPP, 17 Reserved/UIM_C8, 18 GND_8, 19 Reserved/UIM_C4, 20 W_DISABLE#, 21 GND_3, 22 PERST#, 23 PERn0, 24 +3.3Vaux, 25 PERp0, 26 GND_9, 27 GND_4, 28 1.5V_2, 29 GND_5, 30 SMB_CLK, 31 PETn0, 32 SMB_DATA, 33 PETp0, 34 GND_10, 35 GND_6, 36 USB_D-, 37 Reserved_3, 38 USB_D+, 39 Reserved_4, 40 GND_11, 41 Reserved_5, 42 LED_WWAN#, 43 Reserved_6, 44 LED_WLAN#, 45 Reserved_7, 46 LED_WPAN#, 47 Reserved_8, 48 1.5V_3, 49 Reserved_9, 50 GND_12, 51 Reserved_10, 52 3.3V_2, 53 S1, 54 S2

## MM60-EZH059-B5-R650
designator J?
CONN MINI EXPRESS CARD LATCH SMD; Manufacturer: JAE Electronics; For Use With/Related Products: PCI Express Mini Card; .Creator: MM; .Checked PCB: used; Supplier 1: Digi-Key; Manufacturer Part Number: MM60-EZH059-B5-R650; RoHS: RoHS Compliant; Category: Connectors, Interconnects; Stock 1: 4853; Pricing 1: 1=1.22, 10=1.075, 25=1.0116, 100=0.9272, 250=0.84292 (USD); Packaging: Cut Tape (CT); Accessory Type: Latch; ComponentLink1URL: http://jae-connector.com/en/pdf/SJ105221.pdf; ComponentLink1Description: http://jae-connector.com/en/pdf/SJ105221.pdf; Supplier Part Number 1: 670-2277-1-ND; .Checked SCH: used
footprint MINI_PCIE_52PIN_CARD_LATCH (Creator MM)
pins: 1, 2, 3, 4, 5, 6

## MMBT3906,215
designator Q?
TRANS PNP 40V 0.2A SOT23; Manufacturer: NXP Semiconductors; Current - Collector (Ic) (Max): 200mA; Vce Saturation (Max) @ Ib, Ic: 400mV @ 5mA, 50mA; DC Current Gain (hFE) (Min) @ Ic, Vce: 100 @ 10mA, 1V; Power - Max: 250mW; Frequency - Transition: 250MHz; .Checked PCB: MM; Supplier 1: Digi-Key; Manufacturer Part Number: MMBT3906,215; RoHS: RoHS Compliant; Category: Discrete Semiconductor Products; Stock 1: 39823; Pricing 1: 1=0.14, 10=0.125, 25=0.1132, 100=0.0816, 250=0.04804, 500=0.03986, 1000=0.02719 (USD); Packaging: Cut Tape (CT); Transistor Type: PNP; Voltage - Collector Emitter Breakdown (Max): 40V; Current - Collector Cutoff (Max): -; Mounting Type: Surface Mount; Package / Case: TO-236-3, SC-59, SOT-23-3; Supplier Device Package: SOT-23 (TO-236AB); ComponentLink1URL: http://www.nxp.com/documents/data_sheet/MMBT3906.pdf; ComponentLink1Description: http://www.nxp.com/documents/data_sheet/MMBT3906.pdf; Supplier Part Number 1: 568-4511-1-ND; .Checked SCH: MM; .Creator: MM
footprint SOT-23-3-123
pins: 1 B, 2 E, 3 C

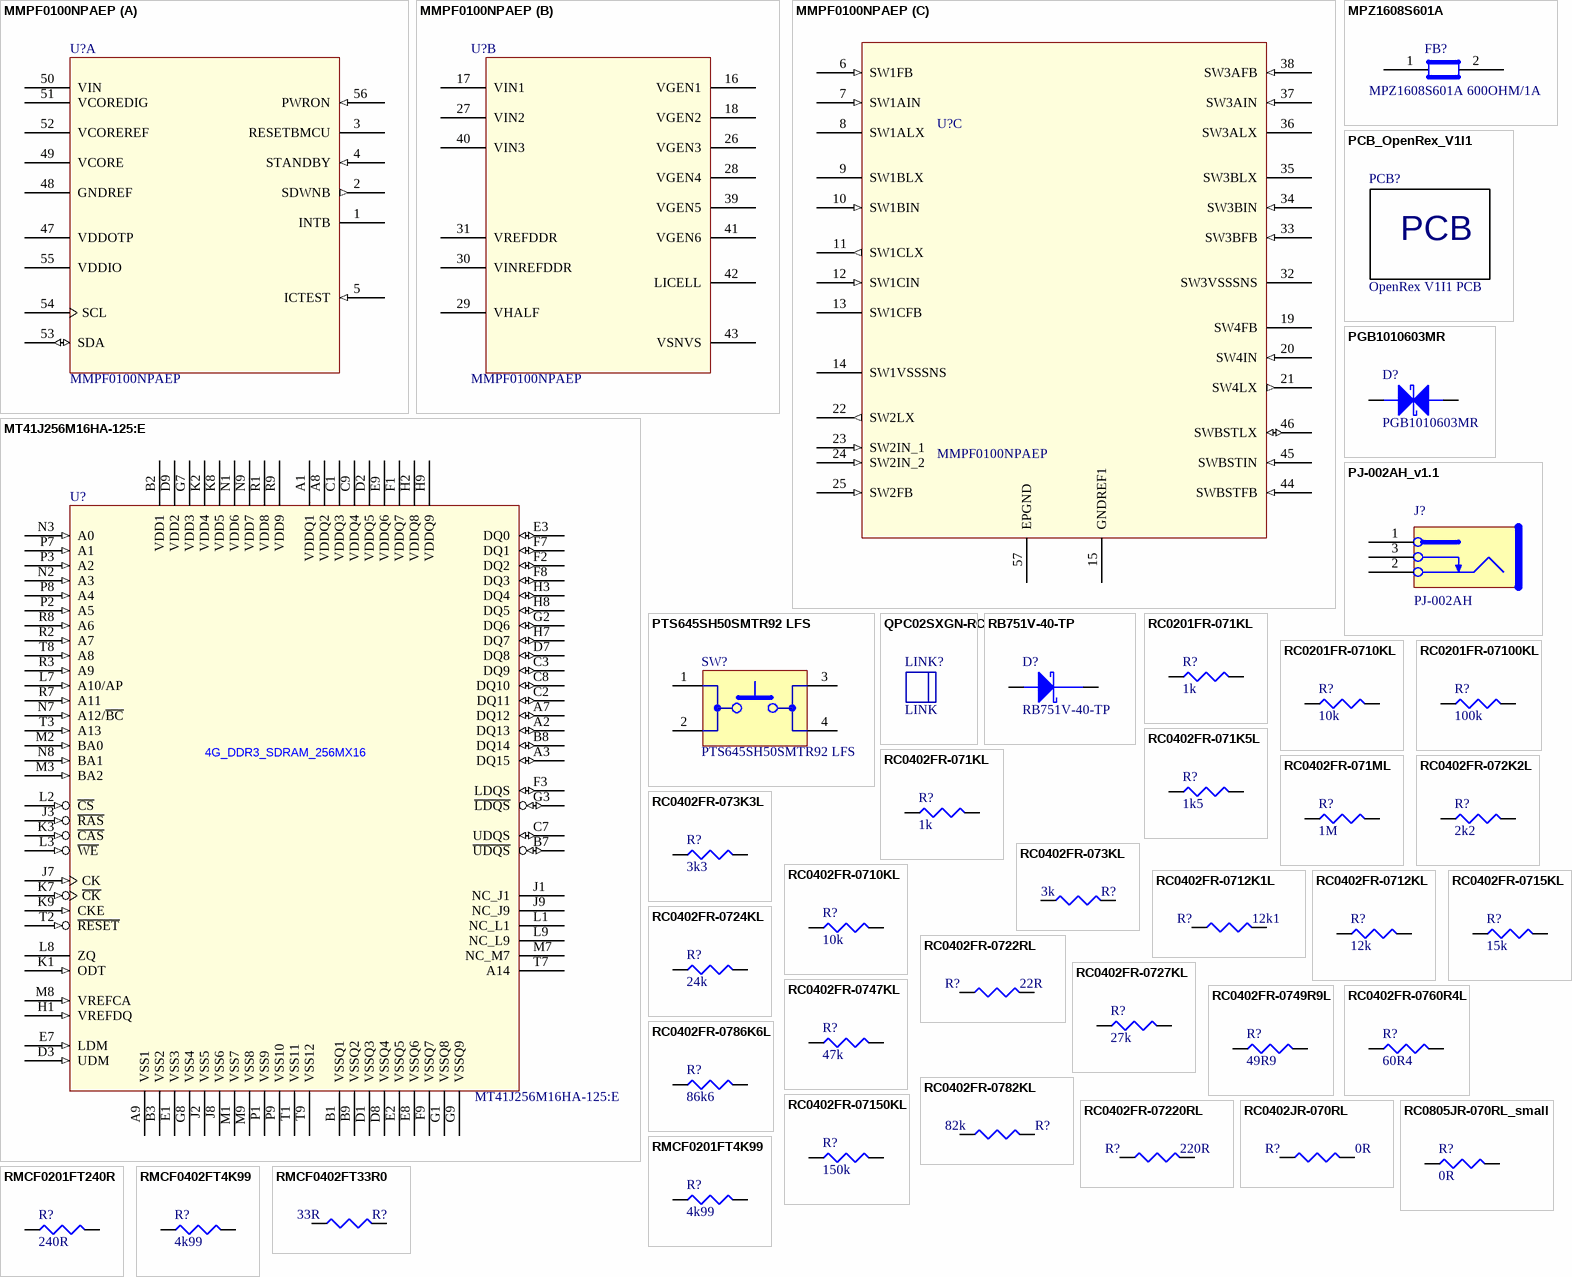
[diagram p14: symbols MMPF0100NPAEP to RMCF0402FT33R0]

## MMPF0100NPAEP
designator U?
IC PWR MGMT I.MX6 56QFN; Manufacturer: Freescale Semiconductor; Voltage - Input: 2.8 V ~ 4.5 V; Number of Outputs: 12; Voltage - Output: Multiple; .Creator: MM; Supplier 1: Digi-Key; Manufacturer Part Number: MMPF0100NPAEP; RoHS: RoHS Compliant; Category: Integrated Circuits (ICs); Stock 1: 0; Pricing 1: 260=4.017 (USD); Packaging: Tray; Applications: Converter, i.MX6; Operating Temperature: -40°C ~ 85°C; Mounting Type: Surface Mount; Package / Case: 56-VFQFN Exposed Pad; Supplier Device Package: 56-QFN (8x8); ComponentLink1URL: http://cache.freescale.com/files/analog/doc/data_sheet/MMPF0100.pdf; ComponentLink1Description: http://cache.freescale.com/files/analog/doc/data_sheet/MMPF0100.pdf; Supplier Part Number 1: MMPF0100NPAEP-ND; .Checked PCB: MM; .Checked SCH: MM
footprint 56-VFQFN EP (Creator MM)
part A pins: 1 INTB, 2 SDWNB (out), 3 RESETBMCU, 4 STANDBY (in), 5 ICTEST (in), 47 VDDOTP, 48 GNDREF (power), 49 VCORE (power), 50 VIN (power), 51 VCOREDIG (power), 52 VCOREREF (power), 53 SDA (io), 54 SCL, 55 VDDIO (power), 56 PWRON (in)
part B pins: 16 VGEN1 (power), 17 VIN1 (power), 18 VGEN2 (power), 26 VGEN3 (power), 27 VIN2 (power), 28 VGEN4 (power), 29 VHALF (power), 30 VINREFDDR (power), 31 VREFDDR (power), 39 VGEN5 (power), 40 VIN3 (power), 41 VGEN6 (power), 42 LICELL (power), 43 VSNVS (power)
part C pins: 6 SW1FB (in), 7 SW1AIN (in), 8 SW1ALX, 9 SW1BLX, 10 SW1BIN (in), 11 SW1CLX (out), 12 SW1CIN (in), 13 SW1CFB, 14 SW1VSSSNS (power), 15 GNDREF1 (power), 19 SW4FB, 20 SW4IN (in), 21 SW4LX (out), 22 SW2LX (out), 23 SW2IN_1 (in), 24 SW2IN_2 (in), 25 SW2FB (in), 32 SW3VSSSNS (power), 33 SW3BFB (in), 34 SW3BIN (in), 35 SW3BLX, 36 SW3ALX, 37 SW3AIN (in), 38 SW3AFB (in), 44 SWBSTFB (in), 45 SWBSTIN (in), 46 SWBSTLX (io), 57 EPGND (power)

## MPZ1608S601A
designator FB?, comment MPZ1608S601A 600OHM/1A
FERRITE CHIP BEAD 600 OHM SMD 1A; Manufacturer: TDK Corporation; Impedance @ Frequency: 600 Ohm @ 100MHz; DC Resistance (DCR): 150 mOhm Max; Filter Type: Differential Mode - Single; Number of Lines: 1; .Checked PCB: used; Supplier 1: Digi-Key; Supplier Part Number 1: 445-2205-1-ND; Manufacturer Part Number: MPZ1608S601A; RoHS: RoHS Compliant; Category: Filters; Stock 1: 328345; Pricing 1: 1=0.36, 10=0.24, 100=0.096, 250=0.069, 500=0.0492, 1000=0.036 (USD); Current Rating: 1A; Package / Case: 0603 (1608 Metric); Mounting Type: Surface Mount; Packaging: Cut Tape (CT); Height (Max): 0.037" (0.95mm); Size / Dimension: 0.063" L x 0.031" W (1.60mm x 0.80mm); ComponentLink1URL: http://www.tdk.co.jp/tefe02/e9413_mpz.pdf; ComponentLink1Description: http://www.tdk.co.jp/tefe02/e9413_mpz.pdf; .Checked SCH: used
footprint C0603
pins: 1, 2

## MT41J256M16HA-125:E
designator U?
IC DDR3 SDRAM 4GBIT 800MHZ FBGA; Manufacturer: Micron Technology Inc; Format - Memory: RAM; Memory Size: 4G (256M x 16); Interface: Parallel; Voltage - Supply: 1.425 V ~ 1.575 V; .Creator: MM; Supplier 1: Digi-Key; Manufacturer Part Number: MT41J256M16HA-125:E; RoHS: RoHS Compliant; Category: Integrated Circuits (ICs); Stock 1: 0; Pricing 1: 1000=7.1775 (USD); Packaging: Tray; Memory Type: DDR3 SDRAM; Speed: 800MHz; Operating Temperature: 0°C ~ 95°C; Package / Case: 96-TFBGA; Supplier Device Package: 96-FBGA (9x14); ComponentLink1URL: http://www.micron.com/~/media/Documents/Products/Data%20Sheet/DRAM/DDR3/4Gb_DDR3_SDRAM.pdf; ComponentLink1Description: http://www.micron.com/~/media/Documents/Products/Data%20Sheet/DRAM/DDR3/4Gb_DDR3_SDRAM.pdf; Supplier Part Number 1: MT41J256M16HA-125:E-ND; .Checked PCB: MM; .Checked SCH: MM
footprint 96_FPGA_DD3_14mmx10mm-small_size (Creator MM)
pins: A1 VDDQ1 (power), A2 DQ13 (io), A3 DQ15 (io), A7 DQ12 (io), A8 VDDQ2 (power), A9 VSS1 (power), B1 VSSQ1 (power), B2 VDD1 (power), B3 VSS2 (power), B7 ~{UDQS} (io), B8 DQ14 (io), B9 VSSQ2 (power), C1 VDDQ3 (power), C2 DQ11 (io), C3 DQ9 (io), C7 UDQS (io), C8 DQ10 (io), C9 VDDQ4 (power), D1 VSSQ3 (power), D2 VDDQ5 (power), D3 UDM (in), D7 DQ8 (io), D8 VSSQ4 (power), D9 VDD2 (power), E1 VSS3 (power), E2 VSSQ5 (power), E3 DQ0 (io), E7 LDM (in), E8 VSSQ6 (power), E9 VDDQ6 (power), F1 VDDQ7 (power), F2 DQ2 (io), F3 LDQS (io), F7 DQ1 (io), F8 DQ3 (io), F9 VSSQ7 (power), G1 VSSQ8 (power), G2 DQ6 (io), G3 ~{LDQS} (io), G7 VDD3 (power), G8 VSS4 (power), G9 VSSQ9 (power), H1 VREFDQ (in), H2 VDDQ8 (power), H3 DQ4 (io), H7 DQ7 (io), H8 DQ5 (io), H9 VDDQ9 (power), J1 NC_J1, J2 VSS5 (power), J3 ~{RAS} (in), J7 CK (in), J8 VSS6 (power), J9 NC_J9, K1 ODT (in), K2 VDD4 (power), K3 ~{CAS} (in), K7 ~{CK} (in), K8 VDD5 (power), K9 CKE (in), L1 NC_L1, L2 ~{CS} (in), L3 ~{WE} (in), L7 A10/AP (in), L8 ZQ, L9 NC_L9, M1 VSS7 (power), M2 BA0 (in), M3 BA2 (in), M7 NC_M7, M8 VREFCA (in), M9 VSS8 (power), N1 VDD6 (power), N2 A3 (in), N3 A0 (in), N7 A12/~{BC} (in), N8 BA1 (in), N9 VDD7 (power), P1 VSS9 (power), P2 A5 (in), P3 A2 (in), P7 A1 (in), P8 A4 (in), P9 VSS10 (power), R1 VDD8 (power), R2 A7 (in), R3 A9 (in), R7 A11 (in), R8 A6 (in), R9 VDD9 (power), T1 VSS11 (power), T2 ~{RESET} (in), T3 A13 (in), T7 A14, T8 A8 (in), T9 VSS12 (power)
text: 4G_DDR3_SDRAM_256MX16

## PCB_OpenRex_V1I1
designator PCB?, comment OpenRex V1I1 PCB  (mechanical)
.Creator: MM; Category: Printed circuits board; .Checked SCH: MM
text: PCB

## PGB1010603MR
designator D?
SUPPRESSOR ESD 24VDC 0603 SMD; Manufacturer: Littelfuse Inc; Voltage - Reverse Standoff (Typ): 24V; Polarization: Bidirectional; .Creator: MM; .Checked PCB: used; Supplier 1: Digi-Key; Manufacturer Part Number: PGB1010603MR; RoHS: RoHS Compliant; Category: Circuit Protection; Stock 1: 155406; Pricing 1: 1=0.66, 10=0.556, 25=0.4872, 100=0.4172, 250=0.3618, 500=0.30646 (USD); Packaging: Cut Tape (CT); Voltage - Breakdown: -; Power (Watts): -; Mounting Type: Surface Mount; Package / Case: 0603 (1608 Metric); Supplier Device Package: 0603 (1608 Metric); ComponentLink1URL: http://www.littelfuse.com/data/en/Data_Sheets/Littelfuse_PulseGuard-ESD_PGB1.pdf; ComponentLink1Description: http://www.littelfuse.com/data/en/Data_Sheets/Littelfuse_PulseGuard-ESD_PGB1.pdf; Supplier Part Number 1: F2594CT-ND; .Checked SCH: used
footprint C0603
pins: 1, 2

## PJ-002AH_v1.1
designator J?, comment PJ-002AH
CONN PWR JACK 2.1X5.5MM HIGH CUR; Manufacturer: CUI Inc; .Checked PCB: MM; Mating connector: 2.1mm ID, 5.5mm OD; Gender: Male; Number of Positions/Contacts: 2 Conductors, 3 Contacts; Internal Switch(s): Single Switch, Normally Closed; Shielding: Unshielded; Voltage - Rated: 24VDC; Current Rating: 5A; .Checked SCH: MM; Category: Connectors, Interconnects; Family: Barrel - Power; Manufacturer Part Number: PJ-002AH; Operating Temperature: -25°C ~ 85°C; Price 1k [$]: 0.23625; Supplier: Digikey; Supplier Part Number: CP-002AH-ND; Value: PJ-002AH; Supplier 1: Digi-Key; Supplier Part Number 1: CP-002AH-ND; RoHS: RoHS Compliant; Stock 1: 138933; Pricing 1: 1=1.01, 10=0.704, 100=0.4724, 500=0.3819, 1000=0.3417, 2500=0.27135 (USD); Connector Type: Jack; Plug/Mating Plug Diameter: 2.1mm ID, 5.5mm OD; Mounting Type: Through Hole, Right Angle; Termination: Solder Eyelet(s); Features: -; Color: Black; Contact Material: Copper Alloy; Contact Material - Plating: Nickel; Housing Color: Black; Housing Material: Thermoplastic; ComponentLink1URL: http://products.cui.com/GetSpecForDigiKey.aspx?MFGNum=PJ-002AH; ComponentLink1Description: http://products.cui.com/GetSpecForDigiKey.aspx?MFGNum=PJ-002AH; .Creator: MM
footprint POWER_JACK_5.5_2.1MM_NS_v1.1 (Creator MM. v1.1 - changed holes for slots)
pins: 1, 2, 3

## PTS645SH50SMTR92 LFS
designator SW?
SWITCH TACTILE SPST-NO 0.05A 12V; Manufacturer: C&K Components; Switch Function: Off-Mom; Contact Rating @ Voltage: 0.05A @ 12VDC; Actuator Type: Standard; Actuator Height off PCB, from Pins: 5.00mm; Actuator Orientation: Top Actuated; Outline: 6.00mm x 6.00mm; Illumination: Non-Illuminated; Operating Force: 200gf; Actuator Material: Polyamide (PA66), Nylon 6/6; Mechanical Life: 100,000 Cycles; .Checked PCB: MM; Supplier 1: Digi-Key; Manufacturer Part Number: PTS645SH50SMTR92 LFS; RoHS: RoHS Compliant; Category: Switches; Stock 1: 61129; Pricing 1: 1=0.29, 10=0.281, 25=0.2712, 50=0.2614, 100=0.2468, 250=0.23232, 500=0.22264 (USD); Packaging: Cut Tape (CT); Circuit: SPST-NO; Mounting Type: Surface Mount; Termination Style: Gull Wing; Illumination Voltage (Nominal): -; Illumination Type, Color: -; Ingress Protection: -; Features: -; Switch Travel: -; Operating Temperature: -20°C ~ 60°C; ComponentLink1URL: http://www.ck-components.com/14409/pts645_25apr13.pdf/; ComponentLink1Description: http://www.ck-components.com/14409/pts645_25apr13.pdf/; Supplier Part Number 1: CKN9085CT-ND; .Checked SCH: MM; .Creator: MM
footprint TACT_SMD
pins: 1, 2, 3 MECH1, 4 MECH2

## QPC02SXGN-RC
designator LINK?, comment LINK  (mechanical)
CONN JUMPER SHORTING .100" GOLD; Manufacturer: Sullins Connector Solutions; Manufacturer Part Number: QPC02SXGN-RC; Gender: Female Sockets; Number of Positions or Pins (Grid): 2 (1 x 2); Pitch: 0.100" (2.54mm); .Checked SCH: used; Supplier 1: Digi-Key; Supplier Part Number 1: S9337-ND; RoHS: RoHS Compliant; Category: Connectors, Interconnects; Stock 1: 23274; Pricing 1: 1=0.11, 10=0.066, 25=0.0468, 50=0.0384, 100=0.033, 250=0.02792, 500=0.0258, 1000=0.0228, 2500=0.018 (USD); Type: Open Top; Height: 0.235" (5.97mm); Contact Finish: Gold; Contact Finish Thickness: Flash; Color: -; Packaging: Bulk; ComponentLink1URL: http://www.sullinscorp.com/drawings/284_SXGN_11510.pdf; ComponentLink1Description: http://www.sullinscorp.com/drawings/284_SXGN_11510.pdf

## RB751V-40-TP
designator D?
DIODE SCHTKY 30MA 30V SOD-323; Manufacturer: Micro Commercial Co; Diode Type: Schottky; Voltage - Forward (Vf) (Max) @ If: 370mV @ 1mA; Speed: Small Signal =< 200mA (Io), Any Speed; Current - Reverse Leakage @ Vr: 500nA @ 30V; Capacitance @ Vr, F: 2pF @ 1V, 1MHz; .Checked PCB: used; Supplier 1: Digi-Key; Supplier Part Number 1: RB751V-40-TPMSCT-ND; Manufacturer Part Number: RB751V-40-TP; RoHS: RoHS Compliant; Category: Discrete Semiconductor Products; Stock 1: 18964; Pricing 1: 1=0.48, 10=0.342, 100=0.2014, 250=0.14252, 500=0.1216, 1000=0.095 (USD); Voltage - DC Reverse (Vr) (Max): 30V; Current - Average Rectified (Io): 30mA; Reverse Recovery Time (trr): -; Mounting Type: Surface Mount; Package / Case: SC-76, SOD-323; Supplier Device Package: SOD-323; Packaging: Cut Tape (CT); ComponentLink1URL: http://61.222.192.61/mccsemi/up_pdf/RB751V-40(SOD-323).PDF; ComponentLink1Description: http://61.222.192.61/mccsemi/up_pdf/RB751V-40(SOD-323).PDF; .Checked SCH: used
footprint SOD323
pins: 1 cathode, 2 ANODE

## RC0201FR-071KL
designator R?, comment 1k
RES 1K OHM 1/20W 1% 0201 SMD; Manufacturer: Yageo; Manufacturer Part Number: RC0201FR-071KL; Power (Watts): 0.05W, 1/20W; Temperature Coefficient: ±200ppm/°C; .Creator: MM; Supplier 1: Digi-Key; RoHS: RoHS Compliant; Category: Resistors; Stock 1: 0; Pricing 1: 1=0.1, 10=0.074, 25=0.054, 100=0.0303, 250=0.02312, 500=0.0185, 1000=0.01361, 2500=0.01182, 5000=0.00976 (USD); Packaging: Cut Tape (CT); Resistance (Ohms): 1k; Tolerance: ±1%; Composition: Thick Film; Features: Moisture Resistant; Package / Case: 0201 (0603 Metric); Supplier Device Package: 0201; Size / Dimension: 0.024" L x 0.012" W (0.60mm x 0.30mm); Height: 0.010" (0.26mm); Number of Terminations: 2; ComponentLink1URL: http://www.yageo.com/documents/recent/PYu-RC0201_51_RoHS_L_8.pdf; ComponentLink1Description: http://www.yageo.com/documents/recent/PYu-RC0201_51_RoHS_L_8.pdf; Supplier Part Number 1: 311-1KMCT-ND; .Checked PCB: MM; .Checked SCH: MM
footprint R0201 (Creator MM)
pins: 1, 2

## RC0201FR-0710KL
designator R?, comment 10k
RES 10K OHM 1/20W 1% 0201 SMD; Manufacturer: Yageo; Manufacturer Part Number: RC0201FR-0710KL; Power (Watts): 0.05W, 1/20W; Temperature Coefficient: ±200ppm/°C; .Creator: MM; Supplier 1: Digi-Key; RoHS: RoHS Compliant; Category: Resistors; Stock 1: 529049; Pricing 1: 1=0.1, 10=0.074, 25=0.054, 100=0.0303, 250=0.02312, 500=0.0185, 1000=0.01361, 2500=0.01182, 5000=0.00976 (USD); Packaging: Cut Tape (CT); Resistance (Ohms): 10k; Tolerance: ±1%; Composition: Thick Film; Features: Moisture Resistant; Package / Case: 0201 (0603 Metric); Supplier Device Package: 0201; Size / Dimension: 0.024" L x 0.012" W (0.60mm x 0.30mm); Height: 0.010" (0.26mm); Number of Terminations: 2; ComponentLink1URL: http://www.yageo.com/documents/recent/PYu-RC0201_51_RoHS_L_8.pdf; ComponentLink1Description: http://www.yageo.com/documents/recent/PYu-RC0201_51_RoHS_L_8.pdf; Supplier Part Number 1: 311-10.0KMCT-ND; .Checked PCB: MM; .Checked SCH: MM
footprint R0201 (Creator MM)
pins: 1, 2

## RC0201FR-07100KL
designator R?, comment 100k
RES 100K OHM 1/20W 1% 0201 SMD; Manufacturer: Yageo; Manufacturer Part Number: RC0201FR-07100KL; Power (Watts): 0.05W, 1/20W; Temperature Coefficient: ±200ppm/°C; .Creator: MM; Supplier 1: Digi-Key; RoHS: RoHS Compliant; Category: Resistors; Stock 1: 0; Pricing 1: 1=0.1, 10=0.074, 25=0.054, 100=0.0303, 250=0.02312, 500=0.0185, 1000=0.01361, 2500=0.01182, 5000=0.00976 (USD); Packaging: Cut Tape (CT); Resistance (Ohms): 100k; Tolerance: ±1%; Composition: Thick Film; Features: Moisture Resistant; Package / Case: 0201 (0603 Metric); Supplier Device Package: 0201; Size / Dimension: 0.024" L x 0.012" W (0.60mm x 0.30mm); Height: 0.010" (0.26mm); Number of Terminations: 2; ComponentLink1URL: http://www.yageo.com/documents/recent/PYu-RC0201_51_RoHS_L_8.pdf; ComponentLink1Description: http://www.yageo.com/documents/recent/PYu-RC0201_51_RoHS_L_8.pdf; Supplier Part Number 1: 311-100KMCT-ND; .Checked PCB: MM; .Checked SCH: MM
footprint R0201 (Creator MM)
pins: 1, 2

## RC0402FR-071K5L
designator R?, comment 1k5
RES 1.50K OHM 1/16W 1% 0402 SMD; Manufacturer: Yageo; Manufacturer Part Number: RC0402FR-071K5L; Resistance (Ohms): 1.5k; Power (Watts): 0.063W, 1/16W; Temperature Coefficient: ±100ppm/°C; .Creator: MM; Supplier 1: Digi-Key; RoHS: RoHS Compliant; Category: Resistors; Stock 1: 499348; Pricing 1: 1=0.1, 10=0.014, 25=0.0104, 100=0.0063, 250=0.0054, 500=0.00382, 1000=0.0027, 2500=0.00234, 5000=0.00203 (USD); Packaging: Cut Tape (CT); Tolerance: ±1%; Composition: Thick Film; Features: -; Package / Case: 0402 (1005 Metric); Supplier Device Package: 0402; Size / Dimension: 0.039" L x 0.020" W (1.00mm x 0.50mm); Height: 0.016" (0.40mm); Number of Terminations: 2; ComponentLink1URL: http://www.yageo.com/documents/recent/PYu-RC0402_51_RoHS_L_6.pdf; ComponentLink1Description: http://www.yageo.com/documents/recent/PYu-RC0402_51_RoHS_L_6.pdf; Supplier Part Number 1: 311-1.50KLRCT-ND; .Checked PCB: MM; .Checked SCH: MM
footprint R0402
pins: 1, 2